# EAGLE library part 691413720005 (library Wuerth_Elektronik_eiCan_Terminal_Blocks_v2.0)
WR-TBL Serie 413 - 5.0mm Screwless 45° Entry - 3 mm2 Wires, 5 Pins
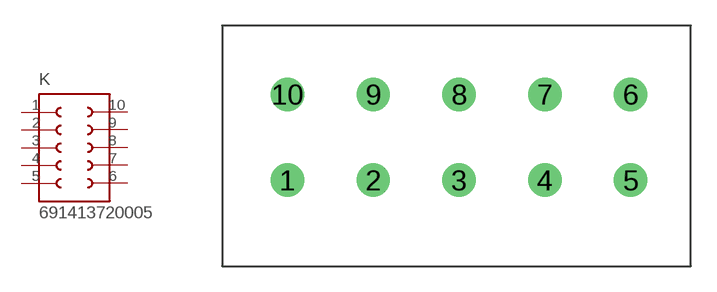
[diagram p282: symbol with the pads of 691413720005; footprint 691413720005]

Designator prefix K

## 691413720005  [691413720005]
1  1  pas
2  2  pas
3  3  pas
4  4  pas
5  5  pas
6  6  pas
7  7  pas
8  8  pas
9  9  pas
10  10  pas

## Footprint 691413720005 (pad centres in mm)
WR-TBL Serie 413 - 5.0mm Screwless 45° Entry - 3 mm2 Wires, 5 Pins
drill 1.3 round: 1 -10,-2.5; 2 -5,-2.5; 3 0,-2.5; 4 5,-2.5; 5 10,-2.5; 6 10,2.5; 7 5,2.5; 8 0,2.5; 9 -5,2.5; 10 -10,2.5